# Altium footprint library diode.PcbLib: 1 footprints
Each footprint in its own frame and in the unit in brackets; x right, y up, seen from the top. Pads: shape width x height; smd on the part's side, far side on the other; paste and mask are expansions set on the pad; w line width, h text height; cw(c..) or ccw(c..) is an arc to the next point about the centre after c.
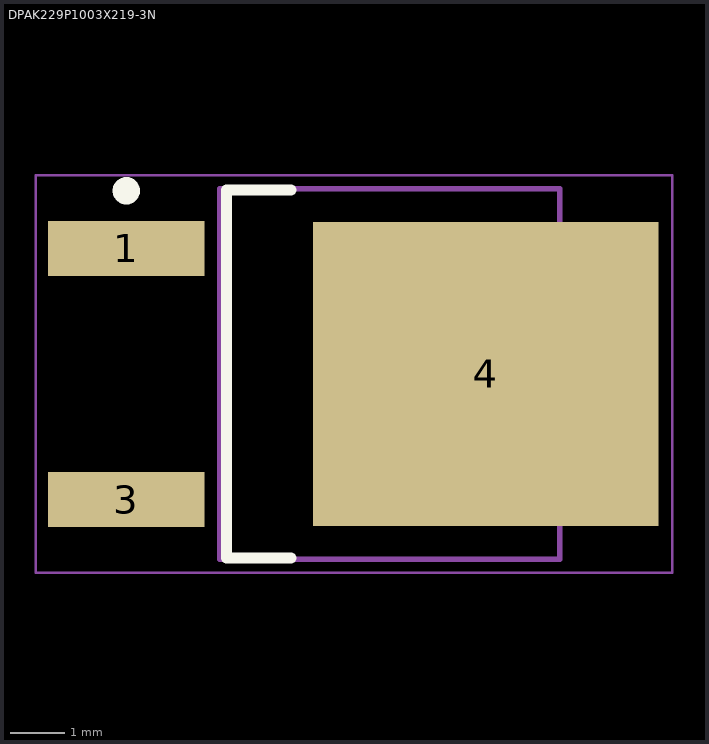
[diagram p0: the footprint, top view; thin cyan lines are the x and y axes]

## DPAK229P1003X219-3N [mm] "D-PAK, 3-Pads, Body 6.20x6.73mm (max), IPC Medium Density"
height 2.19
pads (3):
  rect 2.85x1 smd: 1(-26.35,11.45) 3(-26.35,6.87)
  rect 6.3x5.55 smd: 4(-19.8,9.16)
Top Overlay:
  circle w0.25: c-26.35,12.5 r0.125
  lines w0.2: -23.35,5.81 -24.525,5.81 -24.525,12.51 -23.35,12.51
Mechanical 13:
  lines w0.1: -24.65,5.785 -24.65,12.535 -18.45,12.535 -18.45,5.785 -24.65,5.785
Mechanical 15:
  lines w0.05: -28,5.535 -28,12.785 -16.4,12.785 -16.4,5.535 -28,5.535
  lines w0.1: -22.7,9.16 -21.7,9.16 ; -22.2,8.66 -22.2,9.66
3D body "DPAK229P1003X219-3N.step": height 4.57, standoff 0, extent -26.845,5.785 -16.815,12.535